# EAGLE library part SN65C1168EPWR (library SN65C1168EPWR)
Dual Differential Drivers and Receivers With +/-15-kV IEC ESD Protection Source: Datasheet <http://www.ti.com/lit/gpn/sn65c1168e>
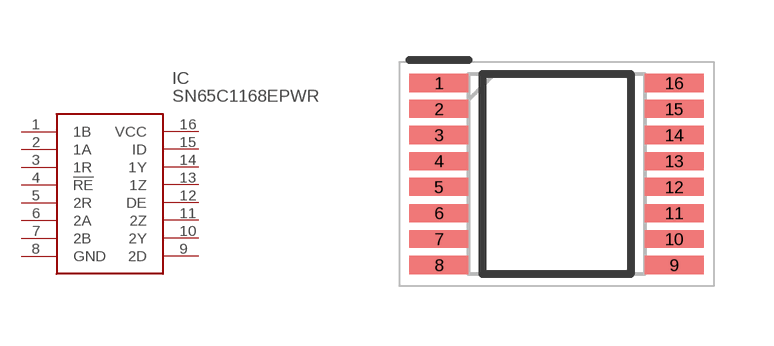
[diagram p0: symbol with the pads of SOP65P640X120-16N; footprint SOP65P640X120-16N]

Designator prefix IC

## SN65C1168EPWR (Description: Dual Differential Drivers and Receivers With +/-15-kV IEC ESD Protection; Height: 1.2mm; Manufacturer_Name: Texas Instruments; Manufacturer_Part_Number: SN65C1168EPWR; Mouser_Part_Number: 595-SN65C1168EPWR; Mouser_Price-Stock: https://www.mouser.co.uk/ProductDetail/Texas-Instruments/SN65C1168EPWR?qs=qRemG2J%252Bg%2FV5zfprVJi%2FKg%3D%3D)  [SOP65P640X120-16N]
1  1B
2  1A
3  1R
4  !RE
5  2R
6  2A
7  2B
8  GND
9  2D
10  2Y
11  2Z
12  DE
13  1Z
14  1Y
15  ID
16  VCC

## Footprint SOP65P640X120-16N (pad centres in mm)
PW (R-PDSO-G16)
smd 1.475 x 0.45: 1 -2.938,2.275; 2 -2.938,1.625; 3 -2.938,0.975; 4 -2.938,0.325; 5 -2.938,-0.325; 6 -2.938,-0.975; 7 -2.938,-1.625; 8 -2.938,-2.275; 9 2.938,-2.275; 10 2.938,-1.625; 11 2.938,-0.975; 12 2.938,-0.325; 13 2.938,0.325; 14 2.938,0.975; 15 2.938,1.625; 16 2.938,2.275